# EAGLE library part 4003EV100 (library XILINX)
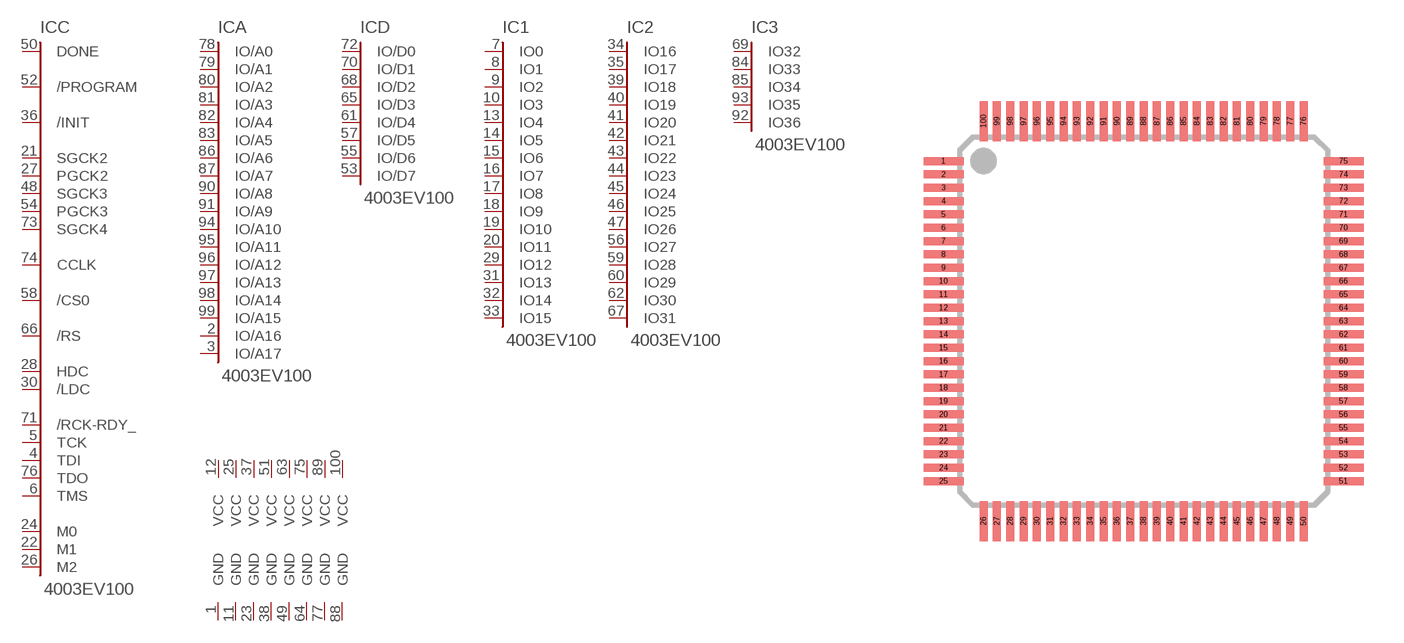
[diagram p15: symbol with the pads of VQ100; footprint VQ100]

Designator prefix IC; gates C=4003-C84 A=XC4-A17 D=XC4-D 1=XC4-IO16 2=XC4-IO32 3=XC4-IO36 V1=VCC V2=VCC V3=VCC V4=VCC V5=VCC V6=VCC V7=VCC V8=VCC G1=GND G2=GND G3=GND G4=GND G5=GND G6=GND G7=GND G8=GND

## 4003EV100  [VQ100]
1  G1:GND  pwr
2  A:IO/A16
3  A:IO/A17
4  C:TDI
5  C:TCK
6  C:TMS
7  1:IO0
8  1:IO1
9  1:IO2
10  1:IO3
11  G2:GND  pwr
12  V1:VCC  pwr
13  1:IO4
14  1:IO5
15  1:IO6
16  1:IO7
17  1:IO8
18  1:IO9
19  1:IO10
20  1:IO11
21  C:SGCK2
22  C:M1  out
23  G3:GND  pwr
24  C:M0  in
25  V2:VCC  pwr
26  C:M2  in
27  C:PGCK2
28  C:HDC
29  1:IO12
30  C:/LDC
31  1:IO13
32  1:IO14
33  1:IO15
34  2:IO16
35  2:IO17
36  C:/INIT
37  V3:VCC  pwr
38  G4:GND  pwr
39  2:IO18
40  2:IO19
41  2:IO20
42  2:IO21
43  2:IO22
44  2:IO23
45  2:IO24
46  2:IO25
47  2:IO26
48  C:SGCK3
49  G5:GND  pwr
50  C:DONE
51  V4:VCC  pwr
52  C:/PROGRAM
53  D:IO/D7
54  C:PGCK3
55  D:IO/D6
56  2:IO27
57  D:IO/D5
58  C:/CS0
59  2:IO28
60  2:IO29
61  D:IO/D4
62  2:IO30
63  V5:VCC  pwr
64  G6:GND  pwr
65  D:IO/D3
66  C:/RS
67  2:IO31
68  D:IO/D2
69  3:IO32
70  D:IO/D1
71  C:/RCK-RDY_
72  D:IO/D0
73  C:SGCK4
74  C:CCLK
75  V6:VCC  pwr
76  C:TDO
77  G7:GND  pwr
78  A:IO/A0
79  A:IO/A1
80  A:IO/A2
81  A:IO/A3
82  A:IO/A4
83  A:IO/A5
84  3:IO33
85  3:IO34
86  A:IO/A6
87  A:IO/A7
88  G8:GND  pwr
89  V7:VCC  pwr
90  A:IO/A8
91  A:IO/A9
92  3:IO36
93  3:IO35
94  A:IO/A10
95  A:IO/A11
96  A:IO/A12
97  A:IO/A13
98  A:IO/A14
99  A:IO/A15
100  V8:VCC  pwr

## Footprint VQ100 (pad centres in mm)
smd 1.5 x 0.3: 1 -7.5,6; 2 -7.5,5.5; 3 -7.5,5; 4 -7.5,4.5; 5 -7.5,4; 6 -7.5,3.5; 7 -7.5,3; 8 -7.5,2.5; 9 -7.5,2; 10 -7.5,1.5; 11 -7.5,1; 12 -7.5,0.5; 13 -7.5,0; 14 -7.5,-0.5; 15 -7.5,-1; 16 -7.5,-1.5; 17 -7.5,-2; 18 -7.5,-2.5; 19 -7.5,-3; 20 -7.5,-3.5; 21 -7.5,-4; 22 -7.5,-4.5; 23 -7.5,-5; 24 -7.5,-5.5; 25 -7.5,-6; 51 7.5,-6; 52 7.5,-5.5; 53 7.5,-5; 54 7.5,-4.5; 55 7.5,-4; 56 7.5,-3.5; 57 7.5,-3; 58 7.5,-2.5; 59 7.5,-2; 60 7.5,-1.5; 61 7.5,-1; 62 7.5,-0.5; 63 7.5,0; 64 7.5,0.5; 65 7.5,1; 66 7.5,1.5; 67 7.5,2; 68 7.5,2.5; 69 7.5,3; 70 7.5,3.5; 71 7.5,4; 72 7.5,4.5; 73 7.5,5; 74 7.5,5.5; 75 7.5,6
smd 0.3 x 1.5: 26 -6,-7.5; 27 -5.5,-7.5; 28 -5,-7.5; 29 -4.5,-7.5; 30 -4,-7.5; 31 -3.5,-7.5; 32 -3,-7.5; 33 -2.5,-7.5; 34 -2,-7.5; 35 -1.5,-7.5; 36 -1,-7.5; 37 -0.5,-7.5; 38 0,-7.5; 39 0.5,-7.5; 40 1,-7.5; 41 1.5,-7.5; 42 2,-7.5; 43 2.5,-7.5; 44 3,-7.5; 45 3.5,-7.5; 46 4,-7.5; 47 4.5,-7.5; 48 5,-7.5; 49 5.5,-7.5; 50 6,-7.5; 76 6,7.5; 77 5.5,7.5; 78 5,7.5; 79 4.5,7.5; 80 4,7.5; 81 3.5,7.5; 82 3,7.5; 83 2.5,7.5; 84 2,7.5; 85 1.5,7.5; 86 1,7.5; 87 0.5,7.5; 88 0,7.5; 89 -0.5,7.5; 90 -1,7.5; 91 -1.5,7.5; 92 -2,7.5; 93 -2.5,7.5; 94 -3,7.5; 95 -3.5,7.5; 96 -4,7.5; 97 -4.5,7.5; 98 -5,7.5; 99 -5.5,7.5; 100 -6,7.5